# Altium schematic symbol library AMC1301.SchLib: 1 symbol
Pins are listed as number, name and electrical type; pins without a type are passive.

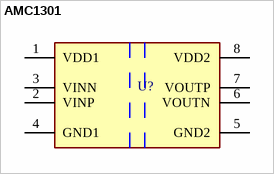
[diagram p0: symbol AMC1301]

## AMC1301
designator U?  (value not drawn)
footprint FP-DWV0008A-IPC_A
footprint FP-DWV0008A-IPC_B
footprint FP-DWV0008A-IPC_C
footprint FP-DWV0008A-MFG
pins: 1 VDD1 (power), 2 VINP (hiz), 3 VINN (hiz), 4 GND1 (power), 5 GND2 (power), 6 VOUTN, 7 VOUTP, 8 VDD2 (power)